# Altium footprint library footprints.PcbLib: 18 footprints (part 1 of 2)
Each footprint in its own frame and in the unit in brackets; x right, y up, seen from the top. Pads: shape width x height; smd on the part's side, far side on the other; paste and mask are expansions set on the pad; w line width, h text height; cw(c..) or ccw(c..) is an arc to the next point about the centre after c.
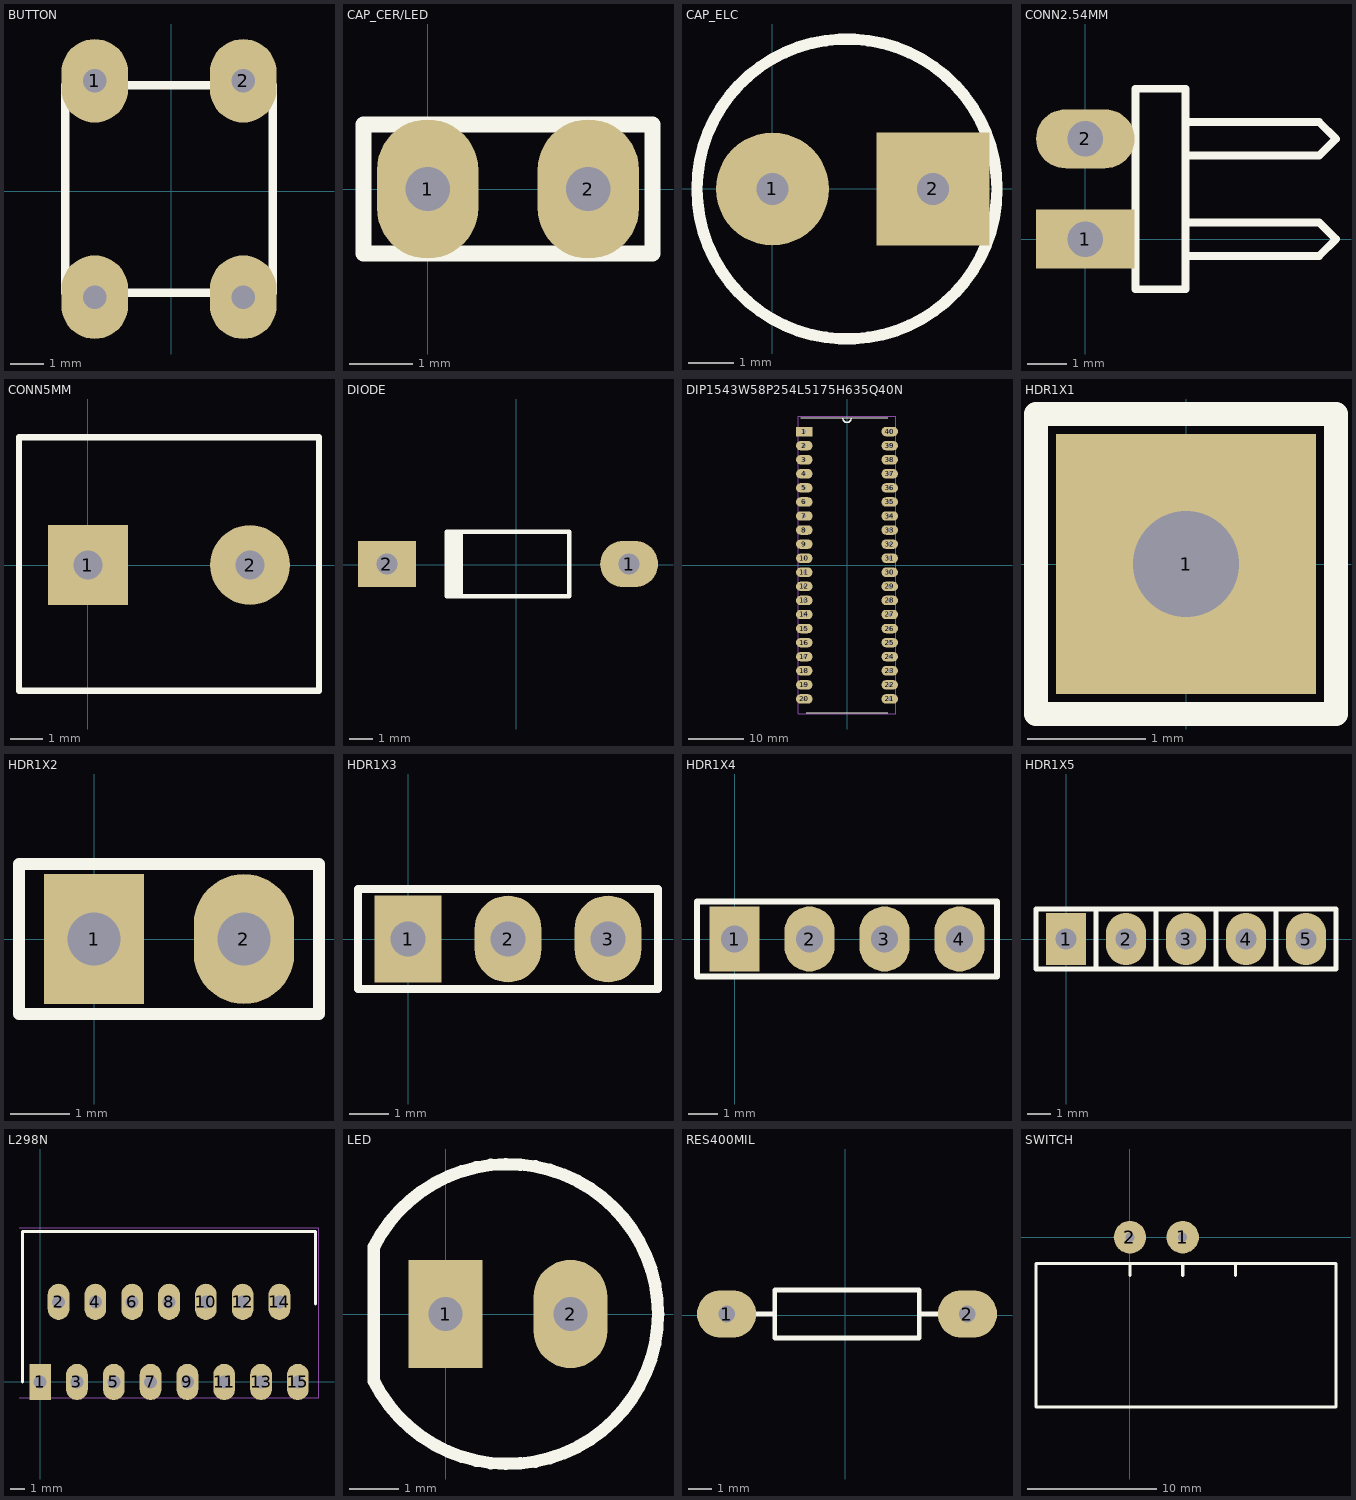
[diagram p0: the footprints below, top view; thin cyan lines are the x and y axes]

## BUTTON [mm]
pads (4):
  oval 2x2.5 hole 0.7: 1(-2.286,3.302) 2(2.159,3.302) ""(-2.286,-3.175) ""(2.159,-3.175)
Top Overlay:
  lines w0.254: -3.175,-3.048 3.048,-3.048 3.048,3.175 -3.175,3.175 -3.175,-3.048

## CAP_CER/LED [mm]
pads (2):
  oval 1.6x2.2 hole 0.7: 1(0,0) 2(2.54,0)
Top Overlay:
  lines w0.254: -1.016,-1.016 -1.016,1.016 3.556,1.016 3.556,-1.016 -1.016,-1.016

## CAP_ELC [mm]
pads (2):
  round 2.5 hole 0.7: 1(0,0)
  rect 2.5x2.5 hole 0.7: 2(3.556,0)
Top Overlay:
  circle w0.254: c1.651,0 r3.324

## CONN2.54MM [mm]
pads (2):
  rect 2.5x1.5 hole 0.9: 1(0,0)
  oval 2.5x1.5 hole 0.9: 2(0,2.54)
Top Overlay:
  lines w0.2: 2.54,-0.423 5.927,-0.423 6.35,0 5.927,0.423 2.54,0.423 ; 2.54,2.117 5.927,2.117 6.35,2.54 5.927,2.963 2.54,2.963 ; 1.27,-1.27 2.54,-1.27 2.54,3.81 1.27,3.81 1.27,-1.27

## CONN5MM [mm]
pads (2):
  rect 2.5x2.5 hole 0.9: 1(0,0)
  round 2.5 hole 0.9: 2(5.08,0)
Top Overlay:
  lines w0.2: -2.159,-3.937 -2.159,4 7.239,4 7.239,0.373 7.239,-0.373 7.239,-3.937 -2.159,-3.937

## DIODE [mm]
pads (2):
  oval 2.5x2 hole 0.9: 1(4.872,0.029)
  rect 2.5x2 hole 0.9: 2(-5.588,0.029)
Top Overlay:
  region: -2.308,1.429 -3.108,1.429 -3.108,-1.371 -2.308,-1.371
  lines w0.2: -3.008,-1.371 2.292,-1.371 2.292,1.429 -3.008,1.429

## DIP1543W58P254L5175H635Q40N [mm]
pads (40):
  rect 3x1.7 hole 0.7 square: 1(-7.715,24.13)
  oval 3x1.7 hole 0.7: 2(-7.715,21.59) 3(-7.715,19.05) 4(-7.715,16.51) 5(-7.715,13.97) 6(-7.715,11.43) 7(-7.715,8.89) 8(-7.715,6.35) 9(-7.715,3.81) 10(-7.715,1.27) 11(-7.715,-1.27) 12(-7.715,-3.81) 13(-7.715,-6.35) 14(-7.715,-8.89) 15(-7.715,-11.43) 16(-7.715,-13.97) 17(-7.715,-16.51) 18(-7.715,-19.05) 19(-7.715,-21.59) 20(-7.715,-24.13) 21(7.715,-24.13) 22(7.715,-21.59) 23(7.715,-19.05) 24(7.715,-16.51) 25(7.715,-13.97) 26(7.715,-11.43) 27(7.715,-8.89) 28(7.715,-6.35) 29(7.715,-3.81) 30(7.715,-1.27) 31(7.715,1.27) 32(7.715,3.81) 33(7.715,6.35) 34(7.715,8.89) 35(7.715,11.43) 36(7.715,13.97) 37(7.715,16.51) 38(7.715,19.05) 39(7.715,21.59) 40(7.715,24.13)
Top Overlay:
  lines w0.2: -8.307,26.606 7.366,26.606 ; -7.366,-26.606 7.366,-26.606
  lines w0.254: -0.762,26.543 ccw(c0,26.543) 0.762,26.543
Mechanical 15:
  lines w0.05: -8.78,-26.856 8.78,-26.856 8.78,26.856 -8.78,26.856 -8.78,-26.856

## HDR1X1 [mm]
pads (1):
  rect 2.2x2.2 hole 0.9: 1(0,0)
Top Overlay:
  lines w0.2: -1.27,-1.27 -1.27,1.27 1.27,1.27 1.27,-1.27 -1.27,-1.27

## HDR1X2 [mm]
pads (2):
  rect 1.7x2.2 hole 0.9: 1(0,0)
  oval 1.7x2.2 hole 0.9: 2(2.54,0)
Top Overlay:
  lines w0.2: -1.27,-1.27 3.81,-1.27 3.81,1.27 -1.27,1.27 -1.27,-1.27

## HDR1X3 [mm]
pads (3):
  rect 1.7x2.2 hole 0.9: 1(0,0)
  oval 1.7x2.2 hole 0.9: 2(2.54,0) 3(5.08,0)
Top Overlay:
  lines w0.2: 1.27,-1.27 6.35,-1.27 6.35,1.27 1.27,1.27 ; 3.81,-1.27 -1.27,-1.27 -1.27,1.27 3.81,1.27

## HDR1X4 [mm]
pads (4):
  rect 1.7x2.2 hole 0.9: 1(0,0)
  oval 1.7x2.2 hole 0.9: 2(2.54,0) 3(5.08,0) 4(7.62,0)
Top Overlay:
  lines w0.2: -1.27,-1.27 -1.27,1.27 3.81,1.27 8.89,1.27 8.89,-1.27 3.81,-1.27 -1.27,-1.27

## HDR1X5 [mm]
pads (5):
  rect 1.7x2.2 hole 0.9: 1(0,0)
  oval 1.7x2.2 hole 0.9: 2(2.54,0) 3(5.08,0) 4(7.62,0) 5(10.16,0)
Top Overlay:
  lines w0.2: 3.81,-1.27 -1.27,-1.27 -1.27,1.27 3.81,1.27 ; 3.81,-1.27 3.81,1.27 ; 3.81,-1.27 8.89,-1.27 8.89,1.27 3.81,1.27 ; 3.81,-1.27 3.81,1.27 ; 6.35,-1.27 1.27,-1.27 1.27,1.27 6.35,1.27 ; 6.35,-1.27 6.35,1.27 ; 6.35,-1.27 11.43,-1.27 11.43,1.27 6.35,1.27 ; 6.35,-1.27 6.35,1.27

## L298N [mm]
pads (15):
  rect 1.5x2.5 hole 0.9: 1(0,0)
  oval 1.5x2.5 hole 0.9: 2(1.27,5.53) 3(2.54,0) 4(3.81,5.53) 5(5.08,0) 6(6.35,5.53) 7(7.62,0) 8(8.89,5.53) 9(10.16,0) 10(11.43,5.53) 11(12.7,0) 12(13.97,5.53) 13(15.24,0) 14(16.51,5.53) 15(17.78,0)
Top Overlay:
  lines w0.2: -1.21,0 -1.21,10.38 18.99,10.38 18.99,5.38
Mechanical 15:
  lines w0.05: -1.46,-1.098 19.24,-1.098 19.24,10.63 -1.46,10.63

## LED [mm]
pads (2):
  rect 1.5x2.2 hole 0.7: 1(0,0)
  oval 1.5x2.2 hole 0.7: 2(2.54,0)
Top Overlay:
  lines w0.254: -1.456,-1.363 ccw(c1.27,0) -1.456,1.363 -1.456,-1.363

## RES400MIL [mm]
pads (2):
  oval 2.5x2 hole 0.7: 1(-5.013,0.043) 2(5.147,0.043)
Top Overlay:
  lines w0.2: -3.997,0.043 -2.981,0.043 ; 3.115,0.043 4.131,0.043 ; -2.981,-0.973 3.115,-0.973 3.115,1.059 -2.981,1.059 -2.981,-0.973

## SWITCH [mm]
pads (2):
  round 2.5 hole 0.7: 1(4.064,0) 2(0,0)
Top Overlay:
  lines w0.254: 0,-2.921 0,-2.032 ; 4.064,-2.921 4.064,-2.032 ; 8.128,-2.921 8.128,-2.032 ; 0,-2.032 -7.239,-2.032 -7.239,-12.954 -7.239,-13.081 -5.207,-13.081 15.875,-13.081 15.875,-3.683 15.875,-2.032 4.064,-2.032 ; 0,-2.032 4.064,-2.032